# Altium schematic symbol library EF3L90CG400B.SchLib: 1 symbol
Pins are listed as number, name and electrical type; pins without a type are passive.

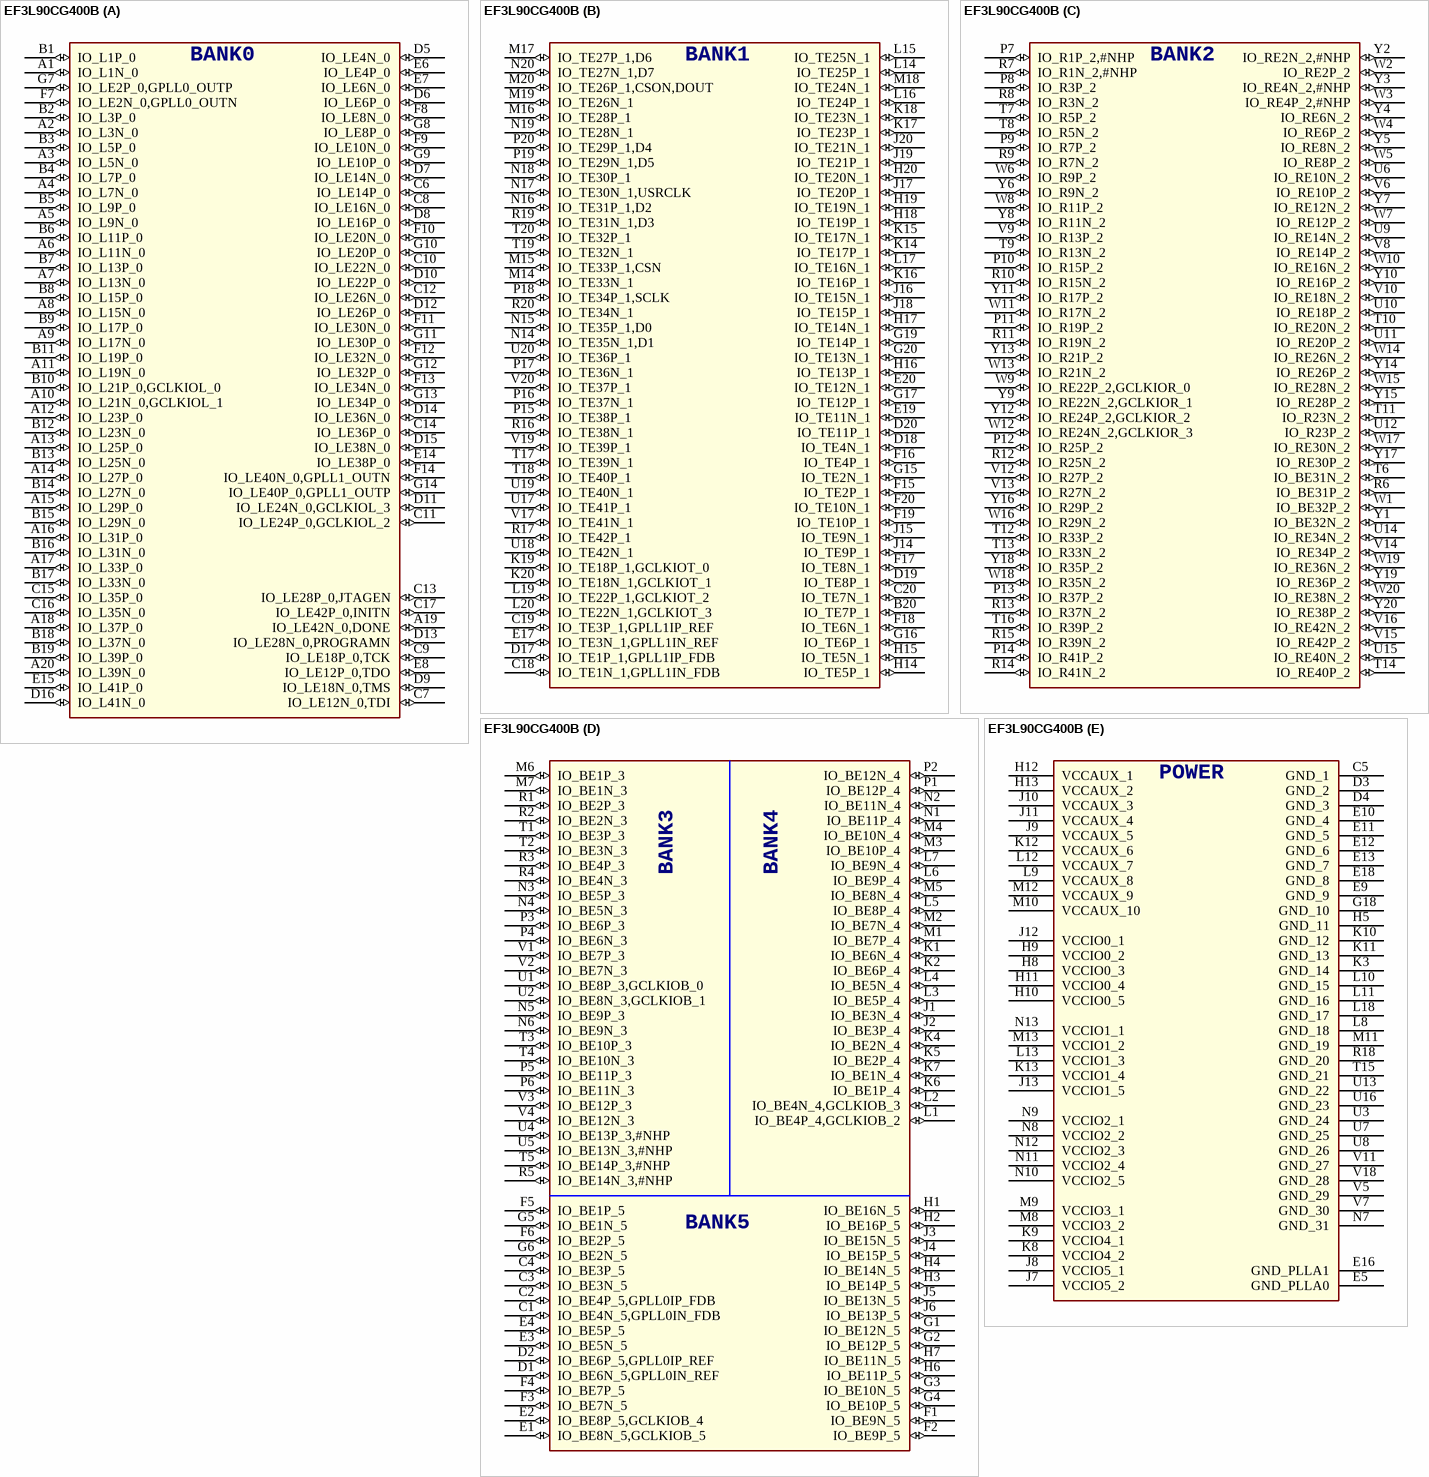
[diagram p0: symbol EF3L90CG400B]

## EF3L90CG400B
designator U?
SWAP_INFO: (S1+S2+S3+S4+S5); SPLIT_INST: TRUE
part A pins: A1 IO_L1N_0 (io), A2 IO_L3N_0 (io), A3 IO_L5N_0 (io), A4 IO_L7N_0 (io), A5 IO_L9N_0 (io), A6 IO_L11N_0 (io), A7 IO_L13N_0 (io), A8 IO_L15N_0 (io), A9 IO_L17N_0 (io), A10 IO_L21N_0,GCLKIOL_1 (io), A11 IO_L19N_0 (io), A12 IO_L23P_0 (io), A13 IO_L25P_0 (io), A14 IO_L27P_0 (io), A15 IO_L29P_0 (io), A16 IO_L31P_0 (io), A17 IO_L33P_0 (io), A18 IO_L37P_0 (io), A19 IO_LE42N_0,DONE (io), A20 IO_L39N_0 (io), B1 IO_L1P_0 (io), B2 IO_L3P_0 (io), B3 IO_L5P_0 (io), B4 IO_L7P_0 (io), B5 IO_L9P_0 (io), B6 IO_L11P_0 (io), B7 IO_L13P_0 (io), B8 IO_L15P_0 (io), B9 IO_L17P_0 (io), B10 IO_L21P_0,GCLKIOL_0 (io), B11 IO_L19P_0 (io), B12 IO_L23N_0 (io), B13 IO_L25N_0 (io), B14 IO_L27N_0 (io), B15 IO_L29N_0 (io), B16 IO_L31N_0 (io), B17 IO_L33N_0 (io), B18 IO_L37N_0 (io), B19 IO_L39P_0 (io), C6 IO_LE14P_0 (io), C7 IO_LE12N_0,TDI (io), C8 IO_LE16N_0 (io), C9 IO_LE18P_0,TCK (io), C10 IO_LE22N_0 (io), C11 IO_LE24P_0,GCLKIOL_2 (io), C12 IO_LE26N_0 (io), C13 IO_LE28P_0,JTAGEN (io), C14 IO_LE36P_0 (io), C15 IO_L35P_0 (io), C16 IO_L35N_0 (io), C17 IO_LE42P_0,INITN (io), D5 IO_LE4N_0 (io), D6 IO_LE6P_0 (io), D7 IO_LE14N_0 (io), D8 IO_LE16P_0 (io), D9 IO_LE18N_0,TMS (io), D10 IO_LE22P_0 (io), D11 IO_LE24N_0,GCLKIOL_3 (io), D12 IO_LE26P_0 (io), D13 IO_LE28N_0,PROGRAMN (io), D14 IO_LE36N_0 (io), D15 IO_LE38N_0 (io), D16 IO_L41N_0 (io), E6 IO_LE4P_0 (io), E7 IO_LE6N_0 (io), E8 IO_LE12P_0,TDO (io), E14 IO_LE38P_0 (io), E15 IO_L41P_0 (io), F7 IO_LE2N_0,GPLL0_OUTN (io), F8 IO_LE8N_0 (io), F9 IO_LE10N_0 (io), F10 IO_LE20N_0 (io), F11 IO_LE30N_0 (io), F12 IO_LE32N_0 (io), F13 IO_LE34N_0 (io), F14 IO_LE40N_0,GPLL1_OUTN (io), G7 IO_LE2P_0,GPLL0_OUTP (io), G8 IO_LE8P_0 (io), G9 IO_LE10P_0 (io), G10 IO_LE20P_0 (io), G11 IO_LE30P_0 (io), G12 IO_LE32P_0 (io), G13 IO_LE34P_0 (io), G14 IO_LE40P_0,GPLL1_OUTP (io)
part B pins: B20 IO_TE7P_1 (io), C18 IO_TE1N_1,GPLL1IN_FDB (io), C19 IO_TE3P_1,GPLL1IP_REF (io), C20 IO_TE7N_1 (io), D17 IO_TE1P_1,GPLL1IP_FDB (io), D18 IO_TE4N_1 (io), D19 IO_TE8P_1 (io), D20 IO_TE11P_1 (io), E17 IO_TE3N_1,GPLL1IN_REF (io), E19 IO_TE11N_1 (io), E20 IO_TE12N_1 (io), F15 IO_TE2P_1 (io), F16 IO_TE4P_1 (io), F17 IO_TE8N_1 (io), F18 IO_TE6N_1 (io), F19 IO_TE10P_1 (io), F20 IO_TE10N_1 (io), G15 IO_TE2N_1 (io), G16 IO_TE6P_1 (io), G17 IO_TE12P_1 (io), G19 IO_TE14P_1 (io), G20 IO_TE13N_1 (io), H14 IO_TE5P_1 (io), H15 IO_TE5N_1 (io), H16 IO_TE13P_1 (io), H17 IO_TE14N_1 (io), H18 IO_TE19P_1 (io), H19 IO_TE19N_1 (io), H20 IO_TE20N_1 (io), J14 IO_TE9P_1 (io), J15 IO_TE9N_1 (io), J16 IO_TE15N_1 (io), J17 IO_TE20P_1 (io), J18 IO_TE15P_1 (io), J19 IO_TE21P_1 (io), J20 IO_TE21N_1 (io), K14 IO_TE17P_1 (io), K15 IO_TE17N_1 (io), K16 IO_TE16P_1 (io), K17 IO_TE23P_1 (io), K18 IO_TE23N_1 (io), K19 IO_TE18P_1,GCLKIOT_0 (io), K20 IO_TE18N_1,GCLKIOT_1 (io), L14 IO_TE25P_1 (io), L15 IO_TE25N_1 (io), L16 IO_TE24P_1 (io), L17 IO_TE16N_1 (io), L19 IO_TE22P_1,GCLKIOT_2 (io), L20 IO_TE22N_1,GCLKIOT_3 (io), M14 IO_TE33N_1 (io), M15 IO_TE33P_1,CSN (io), M16 IO_TE28P_1 (io), M17 IO_TE27P_1,D6 (io), M18 IO_TE24N_1 (io), M19 IO_TE26N_1 (io), M20 IO_TE26P_1,CSON,DOUT (io), N14 IO_TE35N_1,D1 (io), N15 IO_TE35P_1,D0 (io), N16 IO_TE31P_1,D2 (io), N17 IO_TE30N_1,USRCLK (io), N18 IO_TE30P_1 (io), N19 IO_TE28N_1 (io), N20 IO_TE27N_1,D7 (io), P15 IO_TE38P_1 (io), P16 IO_TE37N_1 (io), P17 IO_TE36N_1 (io), P18 IO_TE34P_1,SCLK (io), P19 IO_TE29N_1,D5 (io), P20 IO_TE29P_1,D4 (io), R16 IO_TE38N_1 (io), R17 IO_TE42P_1 (io), R19 IO_TE31N_1,D3 (io), R20 IO_TE34N_1 (io), T17 IO_TE39N_1 (io), T18 IO_TE40P_1 (io), T19 IO_TE32N_1 (io), T20 IO_TE32P_1 (io), U17 IO_TE41P_1 (io), U18 IO_TE42N_1 (io), U19 IO_TE40N_1 (io), U20 IO_TE36P_1 (io), V17 IO_TE41N_1 (io), V19 IO_TE39P_1 (io), V20 IO_TE37P_1 (io)
part C pins: P7 IO_R1P_2,#NHP (io), P8 IO_R3P_2 (io), P9 IO_R7P_2 (io), P10 IO_R15P_2 (io), P11 IO_R19P_2 (io), P12 IO_R25P_2 (io), P13 IO_R37P_2 (io), P14 IO_R41P_2 (io), R6 IO_BE31P_2 (io), R7 IO_R1N_2,#NHP (io), R8 IO_R3N_2 (io), R9 IO_R7N_2 (io), R10 IO_R15N_2 (io), R11 IO_R19N_2 (io), R12 IO_R25N_2 (io), R13 IO_R37N_2 (io), R14 IO_R41N_2 (io), R15 IO_R39N_2 (io), T6 IO_BE31N_2 (io), T7 IO_R5P_2 (io), T8 IO_R5N_2 (io), T9 IO_R13N_2 (io), T10 IO_RE20N_2 (io), T11 IO_R23N_2 (io), T12 IO_R33P_2 (io), T13 IO_R33N_2 (io), T14 IO_RE40P_2 (io), T16 IO_R39P_2 (io), U6 IO_RE10N_2 (io), U9 IO_RE14N_2 (io), U10 IO_RE18P_2 (io), U11 IO_RE20P_2 (io), U12 IO_R23P_2 (io), U14 IO_RE34N_2 (io), U15 IO_RE40N_2 (io), V6 IO_RE10P_2 (io), V8 IO_RE14P_2 (io), V9 IO_R13P_2 (io), V10 IO_RE18N_2 (io), V12 IO_R27P_2 (io), V13 IO_R27N_2 (io), V14 IO_RE34P_2 (io), V15 IO_RE42P_2 (io), V16 IO_RE42N_2 (io), W1 IO_BE32P_2 (io), W2 IO_RE2P_2 (io), W3 IO_RE4P_2,#NHP (io), W4 IO_RE6P_2 (io), W5 IO_RE8P_2 (io), W6 IO_R9P_2 (io), W7 IO_RE12P_2 (io), W8 IO_R11P_2 (io), W9 IO_RE22P_2,GCLKIOR_0 (io), W10 IO_RE16N_2 (io), W11 IO_R17N_2 (io), W12 IO_RE24N_2,GCLKIOR_3 (io), W13 IO_R21N_2 (io), W14 IO_RE26N_2 (io), W15 IO_RE28N_2 (io), W16 IO_R29N_2 (io), W17 IO_RE30N_2 (io), W18 IO_R35N_2 (io), W19 IO_RE36N_2 (io), W20 IO_RE38N_2 (io), Y1 IO_BE32N_2 (io), Y2 IO_RE2N_2,#NHP (io), Y3 IO_RE4N_2,#NHP (io), Y4 IO_RE6N_2 (io), Y5 IO_RE8N_2 (io), Y6 IO_R9N_2 (io), Y7 IO_RE12N_2 (io), Y8 IO_R11N_2 (io), Y9 IO_RE22N_2,GCLKIOR_1 (io), Y10 IO_RE16P_2 (io), Y11 IO_R17P_2 (io), Y12 IO_RE24P_2,GCLKIOR_2 (io), Y13 IO_R21P_2 (io), Y14 IO_RE26P_2 (io), Y15 IO_RE28P_2 (io), Y16 IO_R29P_2 (io), Y17 IO_RE30P_2 (io), Y18 IO_R35P_2 (io), Y19 IO_RE36P_2 (io), Y20 IO_RE38P_2 (io)
part D pins: C1 IO_BE4N_5,GPLL0IN_FDB (io), C2 IO_BE4P_5,GPLL0IP_FDB (io), C3 IO_BE3N_5 (io), C4 IO_BE3P_5 (io), D1 IO_BE6N_5,GPLL0IN_REF (io), D2 IO_BE6P_5,GPLL0IP_REF (io), E1 IO_BE8N_5,GCLKIOB_5 (io), E2 IO_BE8P_5,GCLKIOB_4 (io), E3 IO_BE5N_5 (io), E4 IO_BE5P_5 (io), F1 IO_BE9N_5 (io), F2 IO_BE9P_5 (io), F3 IO_BE7N_5 (io), F4 IO_BE7P_5 (io), F5 IO_BE1P_5 (io), F6 IO_BE2P_5 (io), G1 IO_BE12N_5 (io), G2 IO_BE12P_5 (io), G3 IO_BE10N_5 (io), G4 IO_BE10P_5 (io), G5 IO_BE1N_5 (io), G6 IO_BE2N_5 (io), H1 IO_BE16N_5 (io), H2 IO_BE16P_5 (io), H3 IO_BE14P_5 (io), H4 IO_BE14N_5 (io), H6 IO_BE11P_5 (io), H7 IO_BE11N_5 (io), J1 IO_BE3N_4 (io), J2 IO_BE3P_4 (io), J3 IO_BE15N_5 (io), J4 IO_BE15P_5 (io), J5 IO_BE13N_5 (io), J6 IO_BE13P_5 (io), K1 IO_BE6N_4 (io), K2 IO_BE6P_4 (io), K4 IO_BE2N_4 (io), K5 IO_BE2P_4 (io), K6 IO_BE1P_4 (io), K7 IO_BE1N_4 (io), L1 IO_BE4P_4,GCLKIOB_2 (io), L2 IO_BE4N_4,GCLKIOB_3 (io), L3 IO_BE5P_4 (io), L4 IO_BE5N_4 (io), L5 IO_BE8P_4 (io), L6 IO_BE9P_4 (io), L7 IO_BE9N_4 (io), M1 IO_BE7P_4 (io), M2 IO_BE7N_4 (io), M3 IO_BE10P_4 (io), M4 IO_BE10N_4 (io), M5 IO_BE8N_4 (io), M6 IO_BE1P_3 (io), M7 IO_BE1N_3 (io), N1 IO_BE11P_4 (io), N2 IO_BE11N_4 (io), N3 IO_BE5P_3 (io), N4 IO_BE5N_3 (io), N5 IO_BE9P_3 (io), N6 IO_BE9N_3 (io), P1 IO_BE12P_4 (io), P2 IO_BE12N_4 (io), P3 IO_BE6P_3 (io), P4 IO_BE6N_3 (io), P5 IO_BE11P_3 (io), P6 IO_BE11N_3 (io), R1 IO_BE2P_3 (io), R2 IO_BE2N_3 (io), R3 IO_BE4P_3 (io), R4 IO_BE4N_3 (io), R5 IO_BE14N_3,#NHP (io), T1 IO_BE3P_3 (io), T2 IO_BE3N_3 (io), T3 IO_BE10P_3 (io), T4 IO_BE10N_3 (io), T5 IO_BE14P_3,#NHP (io), U1 IO_BE8P_3,GCLKIOB_0 (io), U2 IO_BE8N_3,GCLKIOB_1 (io), U4 IO_BE13P_3,#NHP (io), U5 IO_BE13N_3,#NHP (io), V1 IO_BE7P_3 (io), V2 IO_BE7N_3 (io), V3 IO_BE12P_3 (io), V4 IO_BE12N_3 (io)
part E pins: C5 GND_1 (power), D3 GND_2 (power), D4 GND_3 (power), E5 GND_PLLA0 (power), E9 GND_9 (power), E10 GND_4 (power), E11 GND_5 (power), E12 GND_6 (power), E13 GND_7 (power), E16 GND_PLLA1 (power), E18 GND_8 (power), G18 GND_10 (power), H5 GND_11 (power), H8 VCCIO0_3 (power), H9 VCCIO0_2 (power), H10 VCCIO0_5 (power), H11 VCCIO0_4 (power), H12 VCCAUX_1 (power), H13 VCCAUX_2 (power), J7 VCCIO5_2 (power), J8 VCCIO5_1 (power), J9 VCCAUX_5 (power), J10 VCCAUX_3 (power), J11 VCCAUX_4 (power), J12 VCCIO0_1 (power), J13 VCCIO1_5 (power), K3 GND_14 (power), K8 VCCIO4_2 (power), K9 VCCIO4_1 (power), K10 GND_12 (power), K11 GND_13 (power), K12 VCCAUX_6 (power), K13 VCCIO1_4 (power), L8 GND_18 (power), L9 VCCAUX_8 (power), L10 GND_15 (power), L11 GND_16 (power), L12 VCCAUX_7 (power), L13 VCCIO1_3 (power), L18 GND_17 (power), M8 VCCIO3_2 (power), M9 VCCIO3_1 (power), M10 VCCAUX_10 (power), M11 GND_19 (power), M12 VCCAUX_9 (power), M13 VCCIO1_2 (power), N7 GND_31 (power), N8 VCCIO2_2 (power), N9 VCCIO2_1 (power), N10 VCCIO2_5 (power), N11 VCCIO2_4 (power), N12 VCCIO2_3 (power), N13 VCCIO1_1 (power), R18 GND_20 (power), T15 GND_21 (power), U3 GND_24 (power), U7 GND_25 (power), U8 GND_26 (power), U13 GND_22 (power), U16 GND_23 (power), V5 GND_29 (power), V7 GND_30 (power), V11 GND_27 (power), V18 GND_28 (power)
part A text: BANK0
part B text: BANK1
part C text: BANK2
part D text: BANK3; BANK4; BANK5
part E text: POWER